# Altium schematic symbol library SCH - POWER - LINEAR VREG - TI LP5912-1P1DRV.SchLib: 1 symbol
Pins are listed as number, name and electrical type; pins without a type are passive.

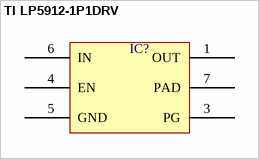
[diagram p0: symbol TI LP5912-1P1DRV]

## TI LP5912-1P1DRV
designator IC?  (value not drawn)
pins: 1 OUT, 3 PG, 4 EN, 5 GND, 6 IN, 7 PAD